# Altium schematic symbol library CeramicFilter.SchLib: 1 symbol
Pins are listed as number, name and electrical type; pins without a type are passive.

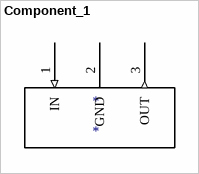
[diagram p0: symbol Component_1]

## Component_1
designator *
pins: 1 IN (in), 2 GND (power), 3 OUT (out)